# Altium footprint library libIC.PcbLib: 1 footprints
Each footprint in its own frame and in the unit in brackets; x right, y up, seen from the top. Pads: shape width x height; smd on the part's side, far side on the other; paste and mask are expansions set on the pad; w line width, h text height; cw(c..) or ccw(c..) is an arc to the next point about the centre after c.
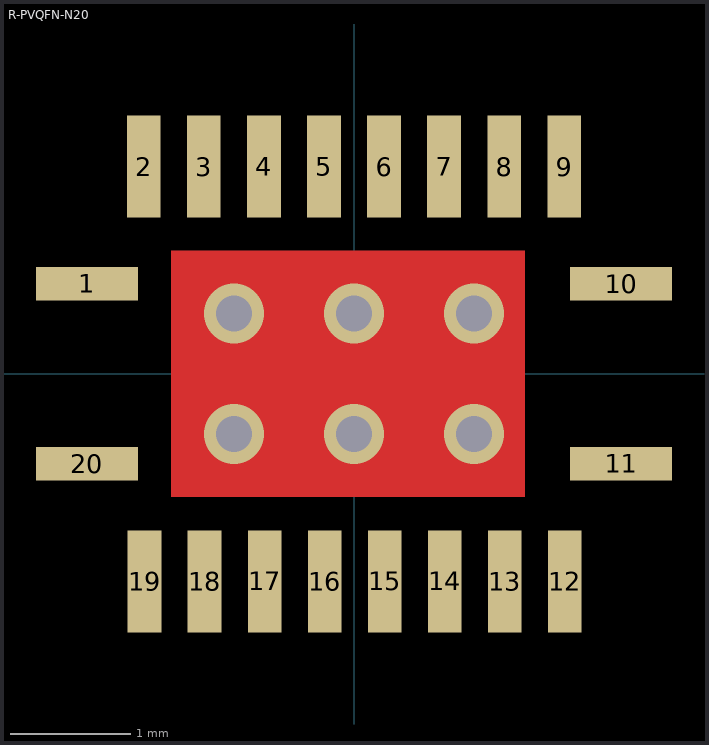
[diagram p0: the footprint, top view; thin cyan lines are the x and y axes]

## R-PVQFN-N20 [mm]
height 1
pads (20):
  rect 0.85x0.28 smd: 1(-2.225,0.749) 10(2.225,0.749) 11(2.225,-0.749) 20(-2.225,-0.749)
  rect 0.28x0.85 smd: 2(-1.75,1.725) 3(-1.25,1.725) 4(-0.75,1.725) 5(-0.25,1.725) 6(0.25,1.725) 7(0.75,1.725) 8(1.25,1.725) 9(1.75,1.725) 12(1.755,-1.729) 13(1.255,-1.729) 14(0.755,-1.729) 15(0.255,-1.729) 16(-0.245,-1.729) 17(-0.745,-1.729) 18(-1.245,-1.729) 19(-1.745,-1.729)
via -1,0.5 diameter 0.5 hole 0.3
via 0,0.5 diameter 0.5 hole 0.3
via 1,0.5 diameter 0.5 hole 0.3
via 1,-0.5 diameter 0.5 hole 0.3
via 0,-0.5 diameter 0.5 hole 0.3
via -1,-0.5 diameter 0.5 hole 0.3
Top Layer:
  rectangle: -1.525,-1.025 1.422,1.025